# Altium footprint library 8通道刺激仪.PcbLib: 39 footprints (part 3 of 3)
Each footprint in its own frame and in the unit in brackets; x right, y up, seen from the top. Pads: shape width x height; smd on the part's side, far side on the other; paste and mask are expansions set on the pad; w line width, h text height; cw(c..) or ccw(c..) is an arc to the next point about the centre after c.
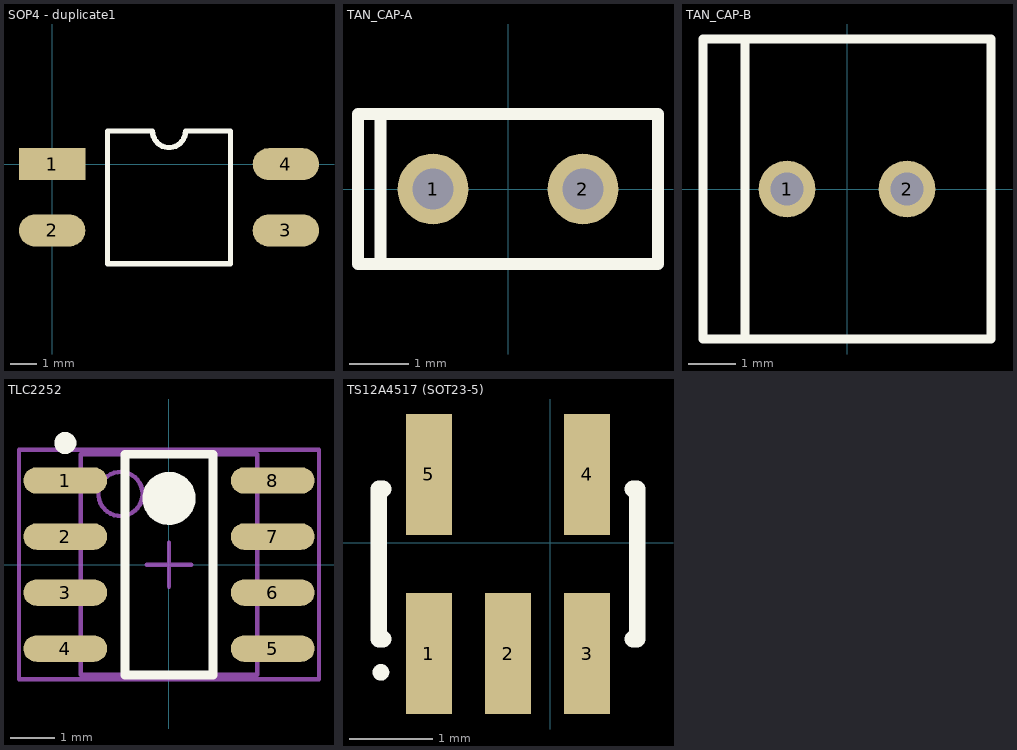
[diagram p2: the footprints below, top view; thin cyan lines are the x and y axes]

## SOP4 [mm]

## SOP4 - duplicate [mm]

## SOP4 - duplicate1 [mm]
pads (4):
  rect 2.5x1.2 smd: 1(0,0)
  oval 2.5x1.2 smd: 2(0,-2.5) 3(8.8,-2.5) 4(8.8,0)
Top Overlay:
  lines w0.2: 2.085,-3.75 2.085,1.25 3.775,1.25 ccw(c4.4,1.25) 5.025,1.25 6.715,1.25 6.715,-3.75 2.085,-3.75

## TAN_CAP-A [mm]
pads (2):
  round 1.2 hole 0.7: 1(-1.27,0) 2(1.27,0)
Top Overlay:
  lines w0.2: -2.159,-1.27 -2.159,1.27 ; -2.54,-1.27 -2.54,1.27 2.54,1.27 2.54,-1.27 -2.54,-1.27

## TAN_CAP-B [mm]
pads (2):
  round 1.2 hole 0.7: 1(-1.27,0) 2(1.27,0)
Top Overlay:
  lines w0.2: -2.159,-3.175 -2.159,-1.143 ; -2.159,-1.27 -2.159,1.27 -2.159,3.175 ; -3.048,-3.175 -3.048,1.27 -3.048,3.175 -2.54,3.175 3.048,3.175 3.048,-3.175 -2.54,-3.175 -3.048,-3.175

## TLC2252 [mm]
pads (8):
  oval 1.9x0.6 smd: 1(-2.35,1.905) 2(-2.35,0.635) 3(-2.35,-0.635) 4(-2.35,-1.905) 5(2.35,-1.905) 6(2.35,-0.635) 7(2.35,0.635) 8(2.35,1.905)
Top Overlay:
  circle w0.25: c-2.35,2.755 r0.125
  circle w0.6: c0,1.5 r0.3
  lines w0.2: -1,-2.5 -1,2.5 1,2.5 1,-2.5 -1,-2.5
Mechanical 13:
  circle w0.1: c-1.1,1.6 r0.5
  lines w0.1: -2,-2.5 -2,2.5 2,2.5 2,-2.5 -2,-2.5
Mechanical 15:
  lines w0.1: -0.5,0 0.5,0 ; 0,-0.5 0,0.5 ; -3.4,-2.6 -3.4,2.6 3.4,2.6 3.4,-2.6 -3.4,-2.6
3D body: height 1.75, standoff 0, extent -2,-2.5 2,2.5

## TS12A4517 (SOT23-5) [mm]
pads (5):
  rect 0.55x1.45 smd: 1(-1.458,-1.329) 2(-0.508,-1.329) 3(0.442,-1.329) 4(0.442,0.821) 5(-1.458,0.821)
Top Overlay:
  circle w0.1: c-2.033,-1.554 r0.05
  lines w0.2: -2.008,-1.154 -2.058,-1.154 -2.058,0.646 -2.008,0.646 ; 0.992,-1.154 1.042,-1.154 1.042,0.646 0.992,0.646